# EAGLE library part VG32S (library 1A-meinLib)
PCB EUROCARD, 32-pin type C/AC, 5.08 mm
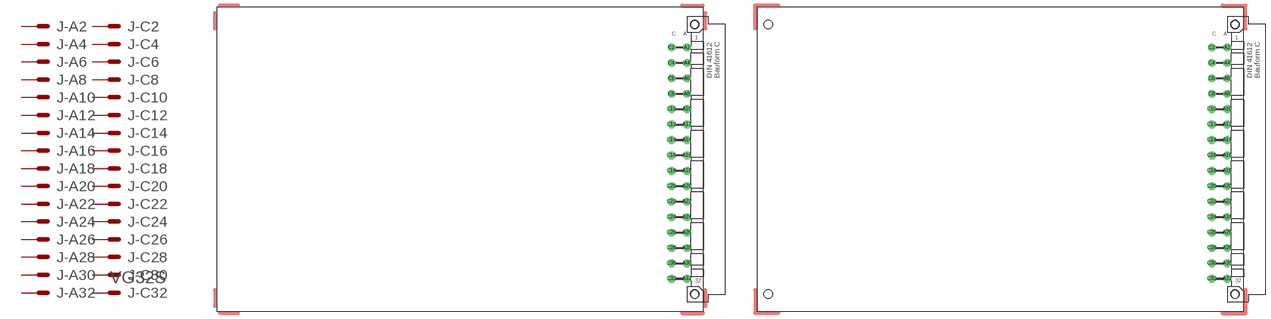
[diagram p294: symbol with the pads of VG32; footprints VG32, VG32B]

Designator prefix J; gates -A2=MS-1 -A4=MS-1 -A6=MS-1 -A8=MS-1 -A10=MS-1 -A12=MS-1 -A14=MS-1 -A16=MS-1 -A18=MS-1 -A20=MS-1 -A22=MS-1 -A24=MS-1 -A26=MS-1 -A28=MS-1 -A30=MS-1 -A32=MS-1 -C2=MS-1 -C4=MS-1 -C6=MS-1 -C8=MS-1 -C10=MS-1 -C12=MS-1 -C14=MS-1 -C16=MS-1 -C18=MS-1 -C20=MS-1 -C22=MS-1 -C24=MS-1 -C26=MS-1 -C28=MS-1 -C30=MS-1 -C32=MSV-1

## VG32S  [VG32]
A2  -A2:MS  pas
A4  -A4:MS  pas
A6  -A6:MS  pas
A8  -A8:MS  pas
A10  -A10:MS  pas
A12  -A12:MS  pas
A14  -A14:MS  pas
A16  -A16:MS  pas
A18  -A18:MS  pas
A20  -A20:MS  pas
A22  -A22:MS  pas
A24  -A24:MS  pas
A26  -A26:MS  pas
A28  -A28:MS  pas
A30  -A30:MS  pas
A32  -A32:MS  pas
C2  -C2:MS  pas
C4  -C4:MS  pas
C6  -C6:MS  pas
C8  -C8:MS  pas
C10  -C10:MS  pas
C12  -C12:MS  pas
C14  -C14:MS  pas
C16  -C16:MS  pas
C18  -C18:MS  pas
C20  -C20:MS  pas
C22  -C22:MS  pas
C24  -C24:MS  pas
C26  -C26:MS  pas
C28  -C28:MS  pas
C30  -C30:MS  pas
C32  -C32:MSV  pas

## VG32SB  [VG32B]
Pads as for VG32

## VG32SK  [VG32K]
Pads as for VG32

## VG32SKB  [VG32KB]
Pads as for VG32

## VG32SP  [VG32P]
Pads as for VG32

## VG32S__F32DZ  [VG-F32-K100]
D2  -A2:MS  pas
D4  -A4:MS  pas
D6  -A6:MS  pas
D8  -A8:MS  pas
D10  -A10:MS  pas
D12  -A12:MS  pas
D14  -A14:MS  pas
D16  -A16:MS  pas
D18  -A18:MS  pas
D20  -A20:MS  pas
D22  -A22:MS  pas
D24  -A24:MS  pas
D26  -A26:MS  pas
D28  -A28:MS  pas
D30  -A30:MS  pas
D32  -A32:MS  pas
Z2  -C2:MS  pas
Z4  -C4:MS  pas
Z6  -C6:MS  pas
Z8  -C8:MS  pas
Z10  -C10:MS  pas
Z12  -C12:MS  pas
Z14  -C14:MS  pas
Z16  -C16:MS  pas
Z18  -C18:MS  pas
Z20  -C20:MS  pas
Z22  -C22:MS  pas
Z24  -C24:MS  pas
Z26  -C26:MS  pas
Z28  -C28:MS  pas
Z30  -C30:MS  pas
Z32  -C32:MSV  pas

## Footprint VG32 (pad centres in mm)
EUROCARD, C/AC, 5.08
drill 1.016 pad 2.54 octagon: A2 154.94,36.83; A4 154.94,31.75; A6 154.94,26.67; A8 154.94,21.59; A10 154.94,16.51; A12 154.94,11.43; A14 154.94,6.35; A16 154.94,1.27; A18 154.94,-3.81; A20 154.94,-8.89; A22 154.94,-13.97; A24 154.94,-19.05; A26 154.94,-24.13; A28 154.94,-29.21; A30 154.94,-34.29; A32 154.94,-39.37; C2 149.86,36.83; C4 149.86,31.75; C6 149.86,26.67; C8 149.86,21.59; C10 149.86,16.51; C12 149.86,11.43; C14 149.86,6.35; C16 149.86,1.27; C18 149.86,-3.81; C20 149.86,-8.89; C22 149.86,-13.97; C24 149.86,-19.05; C26 149.86,-24.13; C28 149.86,-29.21; C30 149.86,-34.29; C32 149.86,-39.37
hole 2.794 at 157.48,44.45
hole 2.794 at 157.48,-44.45

## Footprint VG32B (pad centres in mm)
EUROCARD, 4 mounting holes, C/AC, 5.08
drill 1.016 pad 2.54 octagon: A2 154.94,36.83; A4 154.94,31.75; A6 154.94,26.67; A8 154.94,21.59; A10 154.94,16.51; A12 154.94,11.43; A14 154.94,6.35; A16 154.94,1.27; A18 154.94,-3.81; A20 154.94,-8.89; A22 154.94,-13.97; A24 154.94,-19.05; A26 154.94,-24.13; A28 154.94,-29.21; A30 154.94,-34.29; A32 154.94,-39.37; C2 149.86,36.83; C4 149.86,31.75; C6 149.86,26.67; C8 149.86,21.59; C10 149.86,16.51; C12 149.86,11.43; C14 149.86,6.35; C16 149.86,1.27; C18 149.86,-3.81; C20 149.86,-8.89; C22 149.86,-13.97; C24 149.86,-19.05; C26 149.86,-24.13; C28 149.86,-29.21; C30 149.86,-34.29; C32 149.86,-39.37
hole 2.794 at 157.48,44.45
hole 2.794 at 157.48,-44.45
hole 2.794 at 3.81,-44.45
hole 2.794 at 3.81,44.45

## Footprint VG32K (pad centres in mm)
EUROCARD, 2 mounting holes, C/AC, 5.08
drill 1.016 pad 2.54 octagon: A2 154.94,36.83; A4 154.94,31.75; A6 154.94,26.67; A8 154.94,21.59; A10 154.94,16.51; A12 154.94,11.43; A14 154.94,6.35; A16 154.94,1.27; A18 154.94,-3.81; A20 154.94,-8.89; A22 154.94,-13.97; A24 154.94,-19.05; A26 154.94,-24.13; A28 154.94,-29.21; A30 154.94,-34.29; A32 154.94,-39.37; C2 149.86,36.83; C4 149.86,31.75; C6 149.86,26.67; C8 149.86,21.59; C10 149.86,16.51; C12 149.86,11.43; C14 149.86,6.35; C16 149.86,1.27; C18 149.86,-3.81; C20 149.86,-8.89; C22 149.86,-13.97; C24 149.86,-19.05; C26 149.86,-24.13; C28 149.86,-29.21; C30 149.86,-34.29; C32 149.86,-39.37
hole 2.794 at 157.48,44.45
hole 2.794 at 157.48,-44.45

## Footprint VG32KB (pad centres in mm)
EUROCARD, 4 mounting holes, C/AC, 5.08
drill 1.016 pad 2.54 octagon: A2 154.94,36.83; A4 154.94,31.75; A6 154.94,26.67; A8 154.94,21.59; A10 154.94,16.51; A12 154.94,11.43; A14 154.94,6.35; A16 154.94,1.27; A18 154.94,-3.81; A20 154.94,-8.89; A22 154.94,-13.97; A24 154.94,-19.05; A26 154.94,-24.13; A28 154.94,-29.21; A30 154.94,-34.29; A32 154.94,-39.37; C2 149.86,36.83; C4 149.86,31.75; C6 149.86,26.67; C8 149.86,21.59; C10 149.86,16.51; C12 149.86,11.43; C14 149.86,6.35; C16 149.86,1.27; C18 149.86,-3.81; C20 149.86,-8.89; C22 149.86,-13.97; C24 149.86,-19.05; C26 149.86,-24.13; C28 149.86,-29.21; C30 149.86,-34.29; C32 149.86,-39.37
hole 2.794 at 157.48,44.45
hole 2.794 at 157.48,-44.45
hole 2.794 at 3.81,-44.45
hole 2.794 at 3.81,44.45

## Footprint VG32P (pad centres in mm)
EUROCARD, holder, C/AC, 5.08
drill 1.016 pad 2.54 octagon: A2 154.94,36.83; A4 154.94,31.75; A6 154.94,26.67; A8 154.94,21.59; A10 154.94,16.51; A12 154.94,11.43; A14 154.94,6.35; A16 154.94,1.27; A18 154.94,-3.81; A20 154.94,-8.89; A22 154.94,-13.97; A24 154.94,-19.05; A26 154.94,-24.13; A28 154.94,-29.21; A30 154.94,-34.29; A32 154.94,-39.37; C2 149.86,36.83; C4 149.86,31.75; C6 149.86,26.67; C8 149.86,21.59; C10 149.86,16.51; C12 149.86,11.43; C14 149.86,6.35; C16 149.86,1.27; C18 149.86,-3.81; C20 149.86,-8.89; C22 149.86,-13.97; C24 149.86,-19.05; C26 149.86,-24.13; C28 149.86,-29.21; C30 149.86,-34.29; C32 149.86,-39.37
hole 2.794 at 3.81,44.45
hole 2.794 at 3.81,-44.45
hole 2.794 at 157.48,44.45
hole 2.794 at 157.48,-44.45

## Footprint VG-F32-K100 (pad centres in mm)
Messerleiste Einlöt gewinkelt 2.54, 32pol., Bauform F, Harting TB 09 06 132 x931
drill 1.1 round: D2 -7.62,81.28; D4 -7.62,76.2; D6 -7.62,71.12; D8 -7.62,66.04; D10 -7.62,60.96; D12 -7.62,55.88; D14 -7.62,50.8; D16 -7.62,45.72; D18 -7.62,40.64; D20 -7.62,35.56; D22 -7.62,30.48; D24 -7.62,25.4; D26 -7.62,20.32; D28 -7.62,15.24; D30 -7.62,10.16; D32 -7.62,5.08; Z2 -2.54,81.28; Z4 -2.54,76.2; Z6 -2.54,71.12; Z8 -2.54,66.04; Z10 -2.54,60.96; Z12 -2.54,55.88; Z14 -2.54,50.8; Z16 -2.54,45.72; Z18 -2.54,40.64; Z20 -2.54,35.56; Z22 -2.54,30.48; Z24 -2.54,25.4; Z26 -2.54,20.32; Z28 -2.54,15.24; Z30 -2.54,10.16; Z32 -2.54,5.08
hole 2.8 at -153.67,88.9
hole 2.8 at -153.67,0
hole 2.8 at 0,88.9
hole 2.8 at 0,0